# Altium schematic symbol library STEF01FTR.SchLib: 1 symbol
Pins are listed as number, name and electrical type; pins without a type are passive.

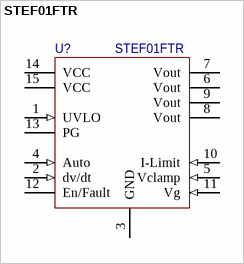
[diagram p0: symbol STEF01FTR]

## STEF01FTR
designator U?
Current & Power Monitors & Regulators 8 V to 48 V fully programmable universal electronic fuse
pins: 1 UVLO (in), 2 dv/dt (in), 3 GND (power), 4 Auto (in), 5 Vclamp (in), 6 Vout (power), 7 Vout (power), 8 Vout (power), 9 Vout (power), 10 I-Limit (in), 11 Vg (in), 12 En/Fault (oc), 13 PG (oc), 14 VCC (power), 15 VCC (power)